# Altium schematic symbol library SnapEDAsch.SchLib: 1 symbol
Pins are listed as number, name and electrical type; pins without a type are passive.

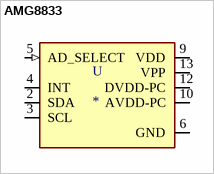
[diagram p0: symbol AMG8833]

## AMG8833
designator U
Temperature Sensor Digital, Infrared _IR_ 14-SMD Module; MF: Panasonic Electronic; MP: AMG8833; Value: *; Package: SMD-14 Panasonic; Price: None; Availability: Unavailable; SnapEDA_Link: https://www.snapeda.com/parts/AMG8833/Panasonic%20Electronic%20Components/view-part/446696/?ref=snap
footprint XDCR_AMG8833
pins: 2 SDA (io), 3 SCL (io), 4 INT (io), 5 AD_SELECT (in), 6 GND (power), 9 VDD (power), 10 AVDD-PC (power), 12 DVDD-PC (power), 13 VPP (power)